# EAGLE library part BQ24090DGQT (library BQ24090DGQT)
1A, Single-Input, Single Cell Li-Ion Battery Charger
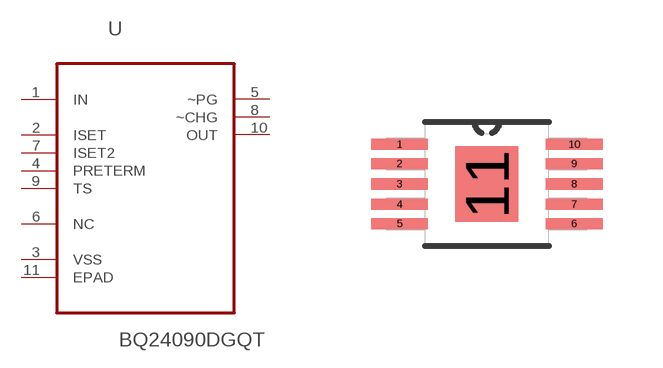
[diagram p0: symbol with the pads of SOP50P490X110-11N; footprint SOP50P490X110-11N]

Designator prefix U

## BQ24090DGQT (AVAILABILITY: Good; DESCRIPTION: 1A%2C Single Input%2C Single Cell Li-Ion Battery Charger w/ 10k%3F NTC %7C Li-ion Linear Battery Charger IC 10-MSOP-PowerPAD ...; MF: Texas Instruments; MP: BQ24090DGQT; PACKAGE: MSOP-10 Texas Instruments; PRICE: 0.96 USD)  [SOP50P490X110-11N]
1  IN  in
2  ISET  in
3  VSS  pwr
4  PRETERM  in
5  ~PG  out
6  NC  nc
7  ISET2  in
8  ~CHG  out
9  TS  in
10  OUT  out
11  EPAD  pas

## Footprint SOP50P490X110-11N (pad centres in mm)
smd 1.422 x 0.279: 1 -2.184,0.991; 2 -2.184,0.508; 3 -2.184,0; 4 -2.184,-0.508; 5 -2.184,-0.991; 6 2.184,-0.991; 7 2.184,-0.508; 8 2.184,0; 9 2.184,0.508; 10 2.184,0.991
smd 1.575 x 1.88: 11 0,0